# Altium footprint library TNBZLY.PcbLib: 48 footprints (part 1 of 3)
Each footprint in its own frame and in the unit in brackets; x right, y up, seen from the top. Pads: shape width x height; smd on the part's side, far side on the other; paste and mask are expansions set on the pad; w line width, h text height; cw(c..) or ccw(c..) is an arc to the next point about the centre after c.
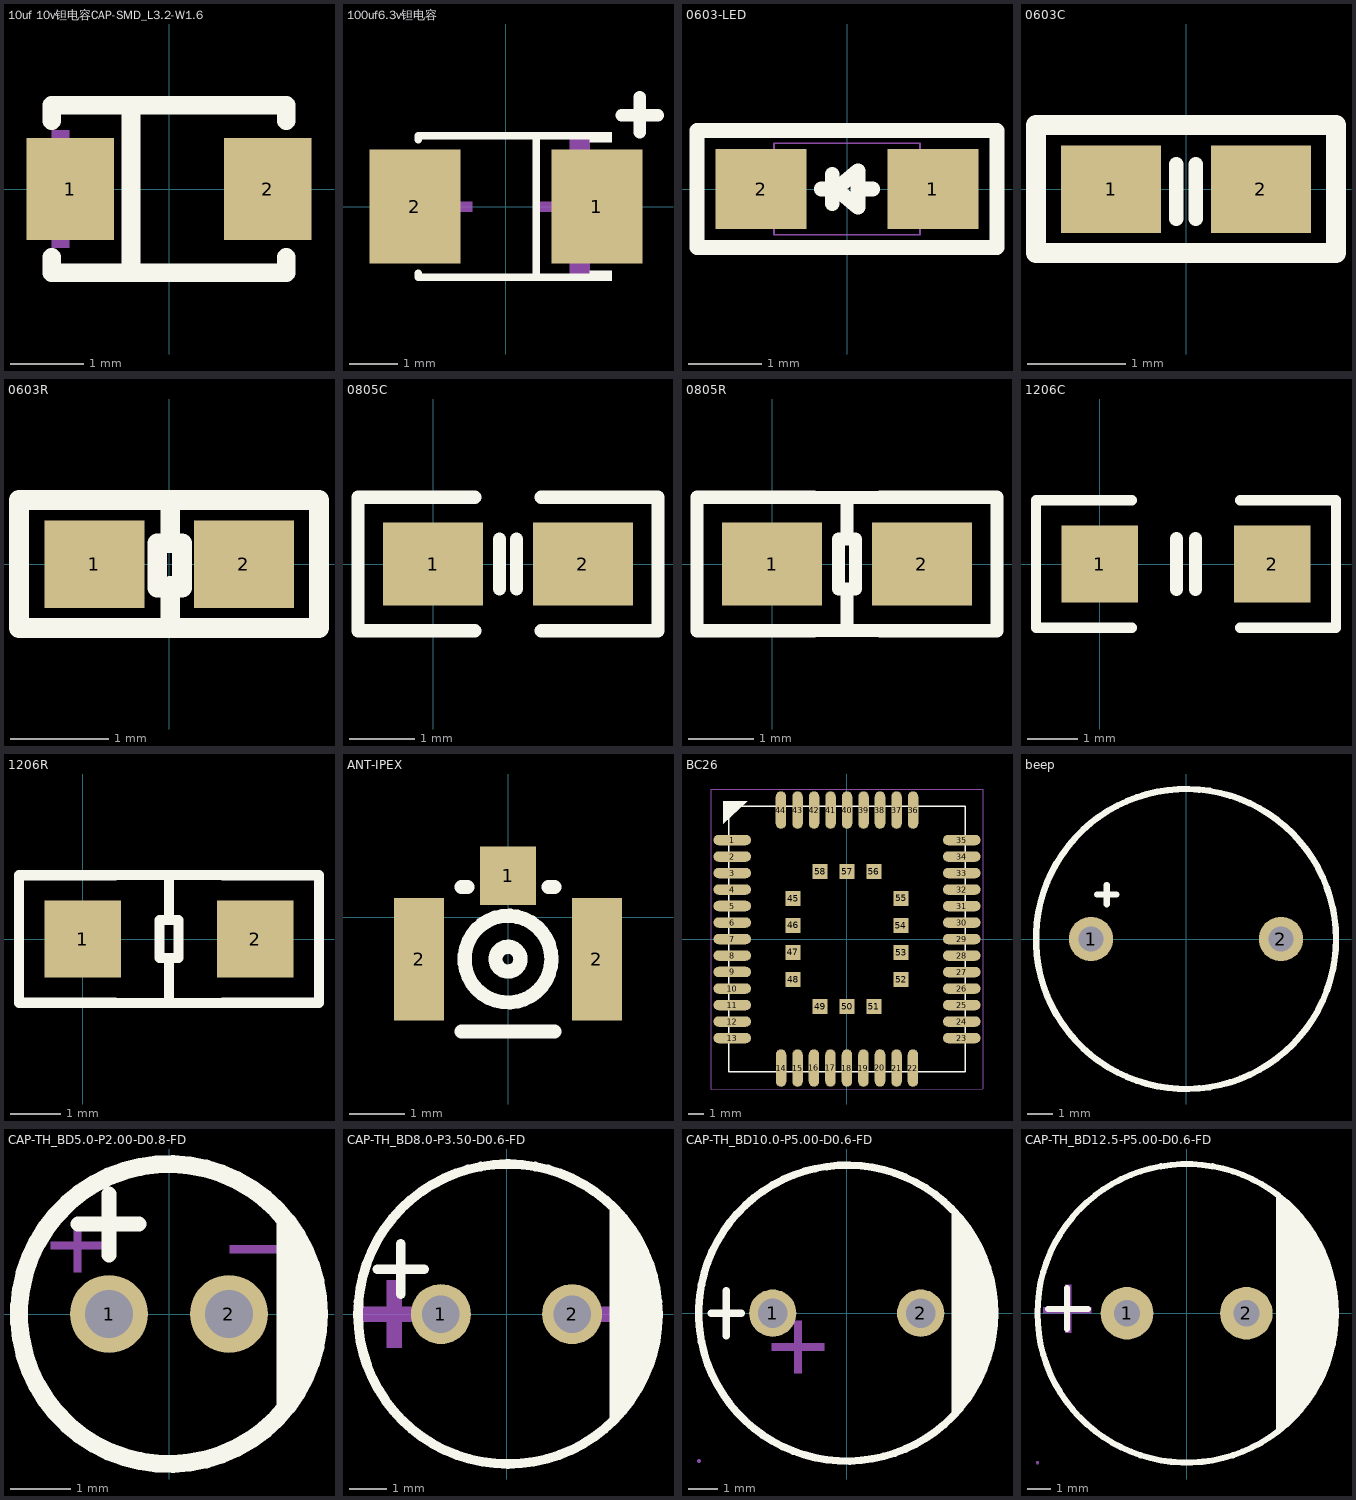
[diagram p0: the footprints below, top view; thin cyan lines are the x and y axes]

## 10uf 10v钽电容CAP-SMD_L3.2-W1.6 [mm]
pads (2):
  rect 1.2x1.4 smd: 1(-1.35,0) 2(1.35,0)
Top Overlay:
  lines w0.254: -1.6,-0.931 -1.6,-1.143 -0.128,-1.143 1.6,-1.143 1.6,-0.931 ; -1.6,0.931 -1.6,1.143 1.6,1.143 1.6,0.931 ; -0.52,-1.143 -0.52,1.143
Mechanical 15:
  region: 1.48,0.06 1.48,-0.06 1,-0.06 1,0.06
  region: -1.48,0.06 -1.48,-0.06 -1,-0.06 -1,0.06
  region: -1.3,0.4 -1.3,-0.4 -1.18,-0.4 -1.18,0.4
  region: -1.6,0.8 -1.6,0.4 -1.36,0.4 -1.36,0.8
  region: -1.6,-0.8 -1.6,-0.4 -1.36,-0.4 -1.36,-0.8

## 100uf6.3v钽电容 [mm]
pads (2):
  rect 1.9x2.376 smd: 1(1.899,0) 2(-1.899,0)
Top Overlay:
  region: 1.75,1.552 1.75,1.34 2.207,1.34 2.207,1.552
  region: 1.75,-1.552 1.75,-1.34 2.207,-1.34 2.207,-1.552
  lines w0.152: -1.826,-1.391 -1.826,-1.476 1.826,-1.476 ; -1.826,1.391 -1.826,1.476 1.826,1.476 ; 0.635,-1.476 0.635,1.476
  lines w0.254: 2.413,1.905 3.175,1.905 ; 2.794,1.552 2.794,2.286
Mechanical 15:
  region: -1.54,-0.105 -1.54,0.105 -0.7,0.105 -0.7,-0.105
  region: 1.54,-0.105 1.54,0.105 0.7,0.105 0.7,-0.105
  region: 1.225,-0.7 1.225,0.7 1.015,0.7 1.015,-0.7
  region: 1.75,-1.4 1.75,-0.7 1.33,-0.7 1.33,-1.4
  region: 1.75,1.4 1.75,0.7 1.33,0.7 1.33,1.4

## 0603-LED [mil]
height 170.08
pads (2):
  rect 49x43 smd: 1(46.26,0) 2(-46.26,0)
Top Overlay:
  lines w7.87: -13.78,0 -5.91,0 ; -7.87,-7.87 -7.87,7.87 ; 5.91,0 13.78,0 ; -5.91,0 5.91,-9.84 5.91,9.84 -5.91,0 ; -80.71,-31.5 -80.71,31.5 80.71,31.5 80.71,-31.5 -80.71,-31.5
Mechanical 8:
  lines w1: -39.37,-24.61 -39.37,24.61 39.37,24.61 39.37,-24.61 -39.37,-24.61

## 0603C [mil]
height 170.08
pads (2):
  rect 40x35 smd: 1(-29.92,0) 2(29.92,0)
Top Overlay:
  lines w5.91: -3.94,-11.81 -3.94,9.84 ; 3.94,-11.81 3.94,9.84
  lines w7.87: -60,-25.59 -60,25.59 60,25.59 60,-25.59 -60,-25.59

## 0603R [mil]
height 170.08
pads (2):
  rect 40x35 smd: 1(-29.92,0) 2(29.92,0)
Top Overlay:
  lines w7.87: 0.39,-21.65 0.39,-8.66 ; 0.39,9.45 0.39,21.65 ; -60.07,-25.59 59.93,-25.59 59.93,25.59 -60.07,25.59 -60.07,-25.59 ; -4.72,-9.45 -4.72,8.27 5.12,8.27 5.12,-9.45 -4.72,-9.45

## 0805C [mil]
pads (2):
  rect 60x50 smd: 1(0,0) 2(90,0)
Top Overlay:
  lines w7.87: 40,-15 40,15 ; 50,-15 50,15
  lines w8: 25,-40 -45,-40 -45,40 25,40 ; 65,-40 135,-40 135,40 65,40

## 0805R [mil]
pads (2):
  rect 60x50 smd: 1(0,0) 2(90,0)
Top Overlay:
  lines w7.87: 25,-40 65,-40 ; 25,40 65,40 ; 45,-40 45,-15 ; 45,15 45,40 ; 40,-15 50,-15 50,15 40,15 40,-15
  lines w8: 25,-40 -45,-40 -45,40 25,40 ; 65,-40 135,-40 135,40 65,40

## 1206C [mil]
pads (2):
  rect 60x60 smd: 1(0,0) 2(135,0)
Top Overlay:
  lines w8: 25,-50 -50,-50 -50,50 25,50 ; 110,-50 185,-50 185,50 110,50
  lines w10: 60,-20 60,20 ; 75,-20 75,20

## 1206R [mil]
pads (2):
  rect 60x60 smd: 1(0,0) 2(135,0)
Top Overlay:
  lines w7.87: 25,-50 110,-50 ; 25,50 110,50 ; 67.5,-50 67.5,-15 ; 67.5,15 67.5,50 ; 60,-15 75,-15 75,15 60,15 60,-15
  lines w8: 25,-50 -50,-50 -50,50 25,50 ; 110,-50 185,-50 185,50 110,50

## ANT-IPEX [mm]
height 12.93
pads (3):
  rect 1x1.05 smd: 1(0,0.75)
  rect 0.9x2.2 smd: 2(-1.6,-0.75) 2(1.6,-0.75)
Top Overlay:
  circle w0.254: c0,-0.75 r0.781
  circle w0.254: c0,-0.75 r0.224
  lines w0.254: -0.837,-2.05 0.837,-2.05 ; -0.837,0.55 -0.731,0.55 ; 0.731,0.55 0.837,0.55

## BC26 [mm]
pads (58):
  oval 2.5x0.7 smd mask+0.05: 1(-7.65,6.6) 2(-7.65,5.5) 3(-7.65,4.4) 4(-7.65,3.3) 5(-7.65,2.2) 6(-7.65,1.1) 7(-7.65,0) 8(-7.65,-1.1) 9(-7.65,-2.2) 10(-7.65,-3.3) 11(-7.65,-4.4) 12(-7.65,-5.5) 13(-7.65,-6.6) 23(7.65,-6.6) 24(7.65,-5.5) 25(7.65,-4.4) 26(7.65,-3.3) 27(7.65,-2.2) 28(7.65,-1.1) 29(7.65,0) 30(7.65,1.1) 31(7.65,2.2) 32(7.65,3.3) 33(7.65,4.4) 34(7.65,5.5) 35(7.65,6.6)
  oval 0.7x2.5 smd mask+0.05: 14(-4.4,-8.6) 15(-3.3,-8.6) 16(-2.2,-8.6) 17(-1.1,-8.6) 18(0,-8.6) 19(1.1,-8.6) 20(2.2,-8.6) 21(3.3,-8.6) 22(4.4,-8.6) 36(4.4,8.6) 37(3.3,8.6) 38(2.2,8.6) 39(1.1,8.6) 40(0,8.6) 41(-1.1,8.6) 42(-2.2,8.6) 43(-3.3,8.6) 44(-4.4,8.6)
  rect 1x1 smd mask+0.05: 45(-3.6,2.7) 46(-3.6,0.9) 47(-3.6,-0.9) 48(-3.6,-2.7) 49(-1.8,-4.5) 50(0,-4.5) 51(1.8,-4.5) 52(3.6,-2.7) 53(3.6,-0.9) 54(3.6,0.9) 55(3.6,2.7) 56(1.8,4.5) 57(0,4.5) 58(-1.8,4.5)
Top Overlay:
  region: -8.25,9.2 -6.641,9.2 -8.25,7.696
  lines w0.1: -7.9,-8.85 -7.9,8.85 7.9,8.85 7.9,-8.85 -7.9,-8.85
Mechanical 1:
  lines w0.01: -9.05,-10 -9.05,10 9.05,10 9.05,-10 -9.05,-10

## beep [mil]
pads (2):
  round 70 hole 40: 1(-149.61,0) 2(149.61,0)
Top Overlay:
  circle w10: c0,0 r236.22
  lines w10: -140,70 -110,70 ; -125,55 -125,85

## CAP-TH_BD5.0-P2.00-D0.8-FD [mm] "5*11 （16v 100uf）"
pads (2):
  round 1.3 hole 0.8: 1(-1,0) 2(1,0)
Top Overlay:
  circle w0.3: c0,0 r2.5
  region: 1.794,1.651 1.961,1.491 2.225,1.111 2.407,0.685 2.5,0.231 2.5,-0.231 2.407,-0.685 2.225,-1.111 1.961,-1.491 1.794,-1.651
  lines w0.254: -1.516,1.5 -0.5,1.5 ; -1,0.984 -1,2
Mechanical 15:
  region: -1.969,1.206 -1.08,1.206 -1.08,1.079 -1.969,1.079
  region: -1.588,0.699 -1.588,1.587 -1.461,1.587 -1.46,0.699
  region: 1.016,1.143 1.905,1.143 1.905,1.016 1.016,1.016

## CAP-TH_BD8.0-P3.50-D0.6-FD [mm] "8*12 (100uf 50v) (1000uf 10v)"
pads (2):
  round 1.6 hole 1: 1(-1.75,0) 2(1.75,0)
Top Overlay:
  region: 2.75,-3 2.941,-2.8 3.268,-2.355 3.536,-1.872 3.741,-1.359 3.88,-0.824 3.95,-0.276 3.95,0.276 3.88,0.824 3.741,1.359 3.536,1.872 3.268,2.355 2.941,2.8 2.75,3
  lines w0.254: -3.445,1.2 -2.2,1.2 ; -2.822,0.527 -2.822,1.873 ; 0.003,4 ccw(c0.038,0.001) 0.074,4
Mechanical 15:
  region: 3.5,0.2 2.1,0.2 2.1,-0.2 3.7,-0.2 3.9,-0.2 3.9,0.2
  region: -2.5,0.2 -3.9,0.2 -3.9,-0.2 -2.3,-0.2 -2.1,-0.2 -2.1,0.2
  region: -3.2,0.5 -3.2,-0.9 -2.8,-0.9 -2.8,0.7 -2.8,0.9 -3.2,0.9

## CAP-TH_BD10.0-P5.00-D0.6-FD [mil] "330uf 50v"
pads (2):
  round 63 hole 39.4 mask+2: 1(-98.4,0) 2(98.4,0)
Top Overlay:
  circle w10: c0,0 r196.9
  region: 140,140 140,-140 170,-100 190,-40 200,20 190,60
  lines w10: -180,0 -140,0 ; -160,-30 -160,30
Mechanical 6:
  region: -100,-40 -30,-40 -30,-50 -100,-50
  region: -70,-30 -70,-80 -60,-80 -60,-10 -70,-10
Mechanical 15:
  region: -86.6,0 -86.6,2.35 -88.4,6.68 -91.72,10 -96.05,11.8 -100.75,11.8 -105.08,10 -108.4,6.68 -110.2,2.35 -110.2,0 -110.2,-2.35 -108.4,-6.68 -105.08,-10 -100.75,-11.8 -96.05,-11.8 -91.72,-10 -88.4,-6.68 -86.6,-2.35 -86.6,0
  region: 110.2,0 110.2,2.35 108.4,6.68 105.08,10 100.75,11.8 96.05,11.8 91.72,10 88.4,6.68 86.6,2.35 86.6,0 86.6,-2.35 88.4,-6.68 91.72,-10 96.05,-11.8 100.75,-11.8 105.08,-10 108.4,-6.68 110.2,-2.35 110.2,0
  region: -194.4,-196.8 -194.4,-195.81 -195.81,-194.4 -197.79,-194.4 -199.2,-195.81 -199.2,-196.8 -199.2,-197.79 -197.79,-199.2 -195.81,-199.2 -194.4,-197.79 -194.4,-196.8
  lines w2: -196.8,0 ccw(c0.05,0) 196.9,0 ccw(c0.05,0) -196.8,0

## CAP-TH_BD12.5-P5.00-D0.6-FD [mm] "1000uf 50v"
pads (2):
  round 2.2 hole 1.1 mask+0.05: 1(-2.5,0) 2(2.5,0)
Top Overlay:
  circle w0.254: c0,0 r6.25
  region: 3.75,5 3.75,-5 4.482,-4.268 4.692,-4.058 5.068,-3.6 5.397,-3.107 5.677,-2.584 5.904,-2.036 6.076,-1.468 6.192,-0.887 6.25,-0.297 6.25,0 6.25,0.297 6.192,0.887 6.076,1.468 5.904,2.036 5.677,2.584 5.397,3.107 5.068,3.6 4.692,4.058 4.482,4.268 3.75,5
  lines w0.254: -5.817,0.178 -4.14,0.178 ; -5.004,-0.66 -5.004,1.067
Mechanical 6:
  region: -5.092,-0.811 -5.092,1.189 -4.842,1.189 -4.842,-0.811
  region: -6,0.25 -4,0.25 -4,0 -6,0
Mechanical 15:
  region: 2.8,0 2.8,0.06 2.754,0.17 2.67,0.254 2.56,0.3 2.44,0.3 2.33,0.254 2.246,0.17 2.2,0.06 2.2,0 2.2,-0.06 2.246,-0.17 2.33,-0.254 2.44,-0.3 2.56,-0.3 2.67,-0.254 2.754,-0.17 2.8,-0.06 2.8,0
  region: -2.2,0 -2.2,0.06 -2.246,0.17 -2.33,0.254 -2.44,0.3 -2.56,0.3 -2.67,0.254 -2.754,0.17 -2.8,0.06 -2.8,0 -2.8,-0.06 -2.754,-0.17 -2.67,-0.254 -2.56,-0.3 -2.44,-0.3 -2.33,-0.254 -2.246,-0.17 -2.2,-0.06 -2.2,0
  region: -6.19,-6.25 -6.19,-6.225 -6.225,-6.19 -6.275,-6.19 -6.31,-6.225 -6.31,-6.25 -6.31,-6.275 -6.275,-6.31 -6.225,-6.31 -6.19,-6.275 -6.19,-6.25
  lines w0.051: -6.25,0 ccw(c0,0) 6.25,0 ccw(c0,0) -6.25,0